# EAGLE library part ROCKBLOCK_9603 (library SparkFun-RF)
Designed to work with SMD connector 53398-1071 from Molex.
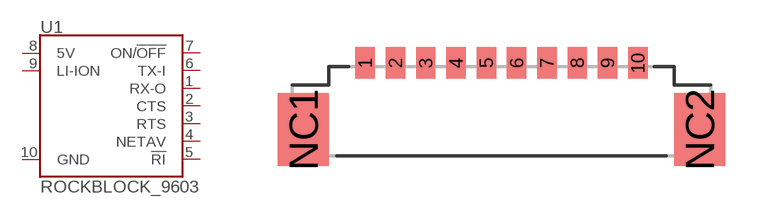
[diagram p31: symbol with the pads of 1X10-1.25MM-SMD; footprint 1X10-1.25MM-SMD]

Designator prefix U1

## ROCKBLOCK_9603SMD (PROD_ID: CONN-14655)  [1X10-1.25MM-SMD]
1  RX-O  out
2  CTS  out
3  RTS  in
4  NETAV
5  !RI!
6  TX-I
7  ON/!OFF!
8  5V
9  LI-ION
10  GND

## Footprint 1X10-1.25MM-SMD (pad centres in mm)
smd 0.8 x 1.3: 1 -5.625,2.75; 2 -4.375,2.75; 3 -3.125,2.75; 4 -1.875,2.75; 5 -0.625,2.75; 6 0.625,2.75; 7 1.875,2.75; 8 3.125,2.75; 9 4.375,2.75; 10 5.625,2.75
smd 2.1 x 3: NC1 -8.175,0; NC2 8.175,0